# Altium schematic symbol library Single_Channel_fNIRS.SchLib: 24 symbols
Pins are listed as number, name and electrical type; pins without a type are passive.

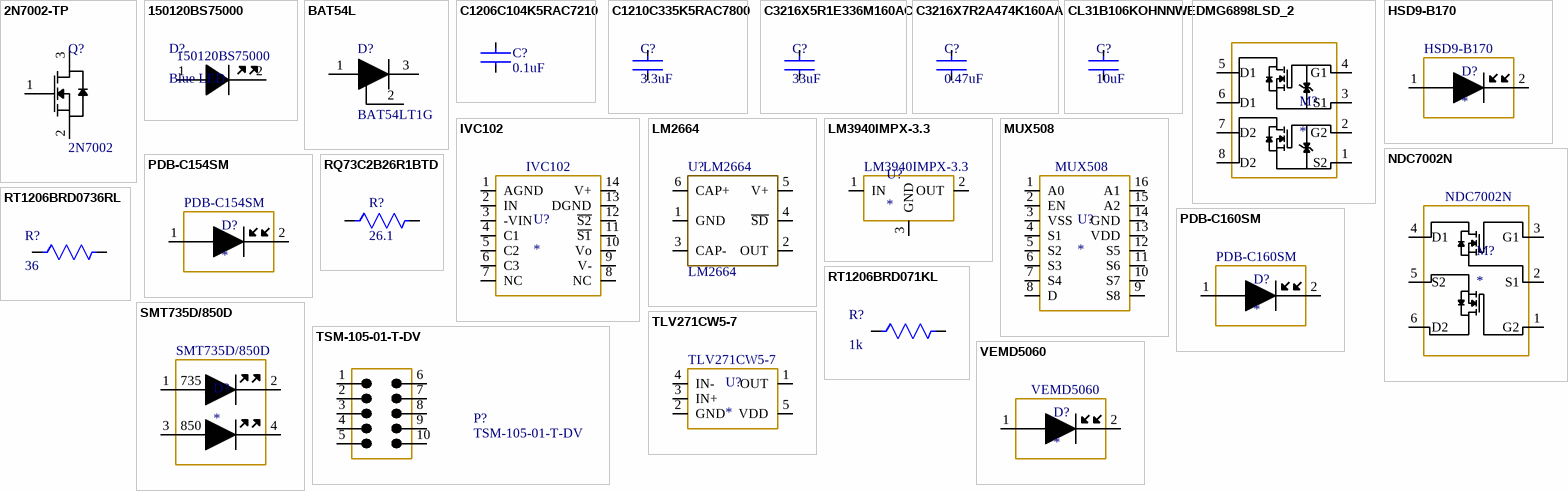
[diagram p0: symbols 2N7002-TP to VEMD5060]

## 2N7002-TP
designator Q?, comment 2N7002
N-channel 60 V, 1.8 Ohm, 0.35 A STripFET(TM) II Power MOSFET, SOT23; Manufacturer: STMicroelectronics; PartNumber: 2N7002; ComponentLink2Description: Datasheet; ComponentLink2URL: http://www.st.com/st-web-ui/static/active/en/resource/technical/document/datasheet/CD00005134.pdf; ComponentLink1Description: Manufacturer URL; ComponentLink1URL: http://www.st.com/; DatasheetVersion: Rev. 9, 11/2008; PackageReference: SOT-23; Mounting Technology: Surface Mount; PackageDescription: 3-Pin SOT23, 3.016 x 2.8 mm Body, 0.95 mm Pitch
footprint STM-SOT-23-3_V (SOT23, 3-Leads, Body 3.016x2.8mm, Pitch 0.95mm)
pins: 1 G, 2 S, 3 D

## 150120BS75000
designator D?, comment Blue LED  Supplier Part Number 1: 150120BS75000
Single Color LED, Blue, Water Clear, 2mm; Manufacturer: Wurth Electronics; Shape: Rectangular; Forward Current-Max: 30mA; Luminous Intensity-Nom: 145mcd; Number of Functions: 1; Viewing Angle: 140°; Overall Height: 0.68mm; Supplier 1: Newark; Manufacturer Part Number: 150120BS75000; RoHS: Yes; Category: LEDs; Stock 1: 1765; Pricing 1: 1=0.262, 10=0.257, 25=0.25, 50=0.242, 100=0.212, 500=0.194 (USD); Mount: Surface Mount; Number of Pins: 2; Color: Blue; Min Operating Temperature: -40°C; Max Operating Temperature: 85°C; Lens Style: WATER CLEAR; Optoelectronic Device Type: SINGLE COLOR LED; Packaging: Tape and Reel; Size: 2mm; Terminal Pitch: 3mm; Reach SVHC Compliant: Yes; RoHS Compliant: Yes; ComponentLink1URL: https://datasheet.ciiva.com:443/pdfs/VipMasterIC/IC/MIDC/MIDC-S-A0007455946/MIDC-S-A0007455946-1.pdf?src-supplier=IHS+Markit; ComponentLink1Description: https://datasheet.ciiva.com:443/pdfs/VipMasterIC/IC/MIDC/MIDC-S-A0007455946/MIDC-S-A0007455946-1.pdf?src-supplier=IHS+Markit; ComponentLink2URL: https://datasheet.ciiva.com/22656/150120bs75000-22656976.pdf?src-supplier=Element14; ComponentLink2Description: https://datasheet.ciiva.com/22656/150120bs75000-22656976.pdf?src-supplier=Element14; ComponentLink3URL: https://datasheet.ciiva.com/29279/759440-da-01-en-chipled-1206-w-kl-blau-150120bs75000-29279045.pdf?src-supplier=Conrad; ComponentLink3Description: https://datasheet.ciiva.com/29279/759440-da-01-en-chipled-1206-w-kl-blau-150120bs75000-29279045.pdf?src-supplier=Conrad; ComponentLink4URL: https://datasheet.ciiva.com/29561/150120bs75000-29561882.pdf?src-supplier=Digikey; ComponentLink4Description: https://datasheet.ciiva.com/29561/150120bs75000-29561882.pdf?src-supplier=Digikey
footprint 150120BS75000
pins: 1, 2

## BAT54L
designator D?, comment BAT54LT1G
Schottky Barrier Diode, 3-Pin SOT-23, Pb-Free, Tape and Reel; Manufacturer: On Semiconductor; IFSM Max (A): 0.6; Configuration: Single; trr Max (ns): 5; PackageVersion: Rev. AP, 11/2009; ComponentLink3Description: Package Specification; RoHS: TRUE; ComponentLink3URL: http://www.onsemi.cn/pub_link/Collateral/318-08.PDF; PackageDescription: 3-Pin Small Outline Transistor, Body 2.92 x 1.3 mm, Pitch 0.95 mm; DatasheetVersion: Rev. 12; ComponentLink1Description: Manufacturer URL; PartNumber: BAT54LT1G; ComponentLink2Description: Datasheet; Mounting Technology: Surface Mount; PackageReference: SOT-23-3-318-08; ComponentLink2URL: http://www.onsemi.cn/pub_link/Collateral/BAT54LT1-D.PDF; ComponentLink1URL: http://www.onsemi.com/; Packing: Tape and Reel
footprint BAT54LT1
pins: 1 A, 2 NC, 3 K

## C1206C104K5RAC7210
designator C?, comment 0.1uF
1206; Manufacturer: KEMET; Manufacturer Part Number: C1206C104K5RAC7210; Tolerance: 0.1; Material: Ceramic; Voltage Rating: 50 V; Temperature Characteristic: X7R; Automotive Grade: Grade 0; Capacitance: 0.10 μF; Value: 0.10 μF; Temperature Coefficient: 15%; Device Class L3: Ceramic Capacitors; ComponentLink2URL: https://content.kemet.com/datasheets/KEM_C1007_X8R_ULTRA_150C_SMD.pdf; Temperature Range Low: -55°C; RoHS: TRUE; Temperature Range High: +150°C; Automotive: Yes; Height: 0.88mm; Temperature: -55°C to +150°C; Octopart: https://octopart.com/c1206c104k5rac7210-kemet-3919856; Package: C1206C-EB; Mouser Description: Multilayer Ceramic Capacitors MLCC - SMD/SMT 50volts 0.1uF X7R 10%; Ipc Land Pattern Name: CAPC320160X78; Device Class L2: Capacitors; Category: Cap; Lead Free: Yes; ComponentLink2Description: Datasheet; Digikey Description: CAP CER 0.1UF 50V X7R 1206; Device Class L1: Passive Components
footprint CAPC3216X180N
pins: 1, 2

## C1210C335K5RAC7800
designator C?, comment 3.3uF
1210
footprint CAPC1210(3225)190_M (Chip Capacitor, Body 3.2x2.5mm, Height 1.9mm, IPC Low Density)
pins: 1, 2

## C3216X5R1E336M160AC
designator C?, comment 33uF
1206
footprint CAPC3216X180N
pins: 1, 2

## C3216X7R2A474K160AA
designator C?, comment 0.47uF
1206
footprint CAPC3216X180N
pins: 1, 2

## CL31B106KOHNNWE
designator C?, comment 10uF
1206
footprint CAPC3216X180N
pins: 1, 2

## DMG6898LSD_2
designator M?
footprint SO-8-DMG6898LSD
pins: 1 S2, 2 G2, 3 S1, 4 G1, 5 D1, 6 D1, 7 D2, 8 D2

## HSD9-B170
designator D?
footprint HSD9-B170
pins: 1, 2

## IVC102
designator U?
footprint D0014A_M (SOIC, 14-Leads, Body 8.75x4mm, Pitch 1.27mm, IPC Low Density)
pins: 1 AGND, 2 IN, 3 -VIN, 4 C1, 5 C2, 6 C3, 7 NC, 8 NC, 9 V-, 10 Vo, 11 ~{S1}, 12 ~{S2}, 13 DGND, 14 V+

## LM2664
designator U?
Switched Capacitor Voltage Converter, 6-pin SOT-23; Manufacturer: Texas Instruments; CompType: Switch Caps; PackageTopMarking: S03A*XTT; PowerWise: N; PackageDescription: Molded SOT-23, .115 x .063 x .040in Body, 6 Lead, .0375in in Pitch; Code_IPC: SOT26A-6; PinCount: 6; PackageReference: DBV0006A; ComponentLink1URL: http://www.ti.com/general/docs/lit/getliterature.tsp?genericPartNumber=LM2664&fileType=pdf; Code_JEDEC: MO-178-AB; ComponentLink1Description: Datasheet URL; RoHS: N
footprint LM2664 (SOT23, 6-Leads, Body 3.05x1.75mm, Pitch 0.95mm, IPC Low Density)
pins: 1 GND, 2 OUT, 3 CAP-, 4 ~{SD}, 5 V+, 6 CAP+

## LM3940IMPX-3.3
designator U?
footprint LM3940
pins: 1 IN, 2 OUT, 3 GND

## MUX508
designator U?
pins: 1 A0, 2 EN, 3 VSS, 4 S1, 5 S2, 6 S3, 7 S4, 8 D, 9 S8, 10 S7, 11 S6, 12 S5, 13 VDD, 14 GND, 15 A2, 16 A1

## NDC7002N
designator M?
footprint FAIR-MA06A_V (SOT23, 6-Leads, Body 3x1.7mm, Pitch 0.95mm)
pins: 1 G2, 2 S1, 3 G1, 4 D1, 5 S2, 6 D2

## PDB-C154SM
designator D?
footprint PDB-C154SM
pins: 1, 2

## PDB-C160SM
designator D?
footprint DS-PDB-C160SM
pins: 1, 2

## RQ73C2B26R1BTD
designator R?, comment 26.1
1206 26.1 Ohm; Manufacturer Part Number: RQ73C2B26R1BTD; Manufacturer: TE; Power Rating: 0.4W; Value: 26.1Ω; Automotive Grade: Grade 0; Voltage Rating: 200V; Temperature Coefficient: 10ppm/°C; Tolerance: 0.1%; Automotive: Yes; Octopart: https://octopart.com/rq73c2b26r1btd-te+connectivity-93911368; Device Class L1: Passive Components; Category: Res; Series: RQ73; Resistance: 26.1Ω; Temperature: -55°C to +155°C; Device Class L3: Chip SMD Resistors; ComponentLink2URL: https://www.te.com/commerce/DocumentDelivery/DDEController?Action=showdoc&DocId=Data+Sheet%7F1773270-2%7FA%7Fpdf%7FEnglish%7FENG_DS_1773270-2_A.pdf%7F9-2176388-167; Composition: Thin Film; Height: 0.75mm; Lead Free: Yes; Ipc Land Pattern Name: RESC310160X60; Temperature Range High: +155°C; ComponentLink2Description: Datasheet; Temperature Range Low: -55°C; RoHS: TRUE; Device Class L2: Resistors; Package: RQ732B
footprint R1206
pins: 1, 2

## RT1206BRD071KL
designator R?, comment 1k
1206 1kOhm
footprint R1206
pins: 1, 2

## RT1206BRD0736RL
designator R?, comment 36
1206 36 Ohm; Manufacturer: Yageo; Manufacturer Part Number: RT1206BRD0736RL; Tolerance: 0.1%; Additional Feature: HIGH PRECISION; Rated Power Dissipation (P): 250mW; Rated Temperature: 70°C; Resistance: 36R; Temperature Coefficient: 25ppm/°C; Working Voltage: 200V; Package Height: 0.55mm; Package Length: 3.1mm; Package Width: 1.6mm; Supplier 1: Digikey; RoHS: Yes; Category: Chip SMD Resistors; Stock 1: 9860; Pricing 1: 1=0.33, 10=0.241, 50=0.1868, 100=0.166, 500=0.1245, 1000=0.10938 (USD); Mount: Surface Mount; Number of Pins: 2; Size Code: 1206; Min Operating Temperature: -55°C; Max Operating Temperature: 155°C; Resistor Type: FIXED RESISTOR; Construction: Chip; Package Style: SMTMeter; Packaging: Tape and Reel; Technology: THIN FILM; Termination: Wraparound; Reach SVHC Compliant: Yes; RoHS Compliant: Yes; ComponentLink1URL: https://datasheet.ciiva.com:443/pdfs/VipMasterIC/IC/YAGO/YAGO-S-A0008510989/YAGO-S-A0008510989-1.pdf?src-supplier=IHS+Markit; ComponentLink1Description: https://datasheet.ciiva.com:443/pdfs/VipMasterIC/IC/YAGO/YAGO-S-A0008510989/YAGO-S-A0008510989-1.pdf?src-supplier=IHS+Markit; ComponentLink2URL: https://datasheet.ciiva.com/2587/pyu-rt-1-to-0-05-rohs-l-5-2587658.pdf?src-supplier=Digikey; ComponentLink2Description: https://datasheet.ciiva.com/2587/pyu-rt-1-to-0-05-rohs-l-5-2587658.pdf?src-supplier=Digikey; ComponentLink3URL: https://datasheet.ciiva.com/12811/pyu-rt-1-to-0-05-rohs-l-4-12811975.pdf?src-supplier=Mouser; ComponentLink3Description: https://datasheet.ciiva.com/12811/pyu-rt-1-to-0-05-rohs-l-4-12811975.pdf?src-supplier=Mouser
footprint R1206
pins: 1, 2

## SMT735D/850D
designator D?
footprint SMT735D_850D
pins: 1, 2, 3, 4
text: 735; 850

## TLV271CW5-7
designator U?
footprint SOT95P285X145-5N
pins: 1 OUT, 2 GND, 3 IN+, 4 IN-, 5 VDD

## TSM-105-01-T-DV
designator P?
0.025" SQ Post Header, Surface Mount, Vertical, -55 to 105 degC, 2.54 mm Pitch, 10-Pin, Male, RoHS; Manufacturer: Samtec; Pitch: 2.54 mm; ComponentLink3Description: Package Specification; ComponentLink2URL: http://www.samtec.com/documents/webfiles/pdf/TSM.PDF; DatasheetVersion: F-214; Temperature Range: -55 to 105 degC; PackageReference: TSM-105-01-X-DV; PartNumber: TSM-105-01-T-DV; ComponentLink2Description: Datasheet; PackageVersion: DJ, 4/1991; ComponentLink3URL: http://www.samtec.com/documents/webfiles/cpdf/TSM-1XX-XX-XXX-XX-X-XXX-X-MKT.pdf; ComponentLink1URL: http://www.samtec.com; Orientation: Vertical; ComponentLink1Description: Manufacturer URL; RoHS: True; PackageDescription: Double Row Gullwing ASM; Mounting Technology: Surface Mount
footprint SAMTEC_TSM-105-01-T-DV-TR
pins: 1, 2, 3, 4, 5, 6, 7, 8, 9, 10

## VEMD5060
designator D?
footprint VEMD5060
pins: 1, 2